# Altium footprint library TO.PcbLib: 37 footprints (part 3 of 3)
Each footprint in its own frame and in the unit in brackets; x right, y up, seen from the top. Pads: shape width x height; smd on the part's side, far side on the other; paste and mask are expansions set on the pad; w line width, h text height; cw(c..) or ccw(c..) is an arc to the next point about the centre after c.
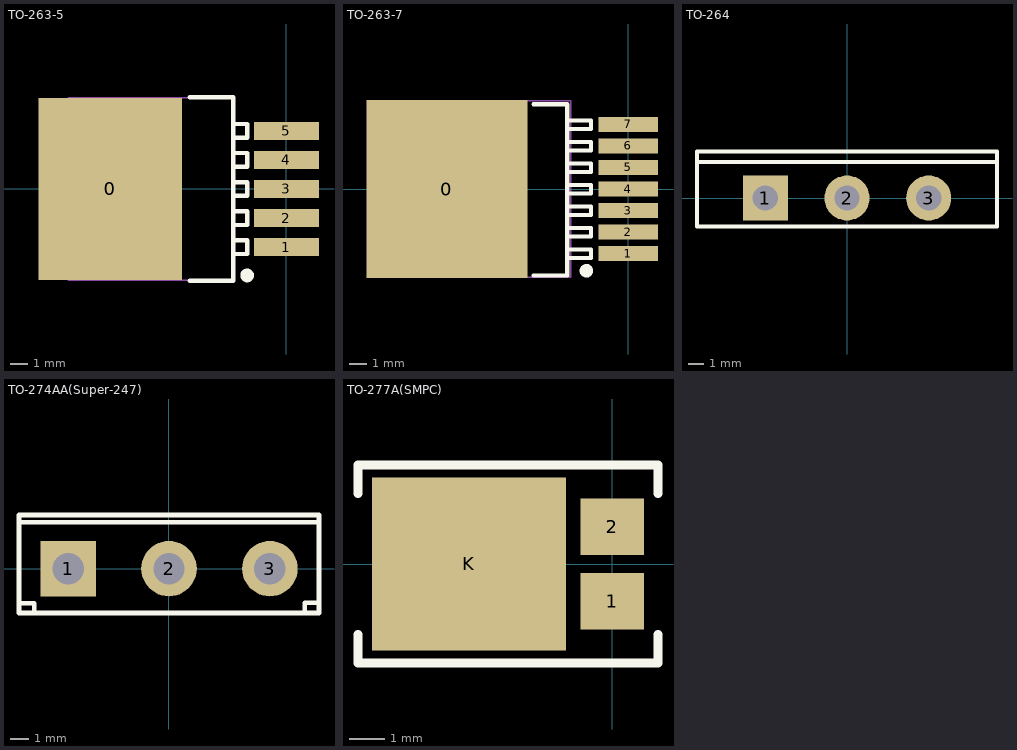
[diagram p2: the footprints below, top view; thin cyan lines are the x and y axes]

## TO-263-5 [mm]
pads (6):
  rect 8.4x10.65 smd: 0(-10.3,0)
  rect 3.8x1.05 smd: 1(0,-3.4) 2(0,-1.7) 3(0,0) 4(0,1.7) 5(0,3.4)
Top Overlay:
  circle w0.4: c-2.3,-5.05 r0.2
  lines w0.254: -5.65,-5.35 -3.1,-5.35 -3.1,5.35 -5.65,5.35 ; -3.1,-3 -2.3,-3 -2.3,-3.8 -3,-3.8 ; -3.1,-1.3 -2.3,-1.3 -2.3,-2.1 -3,-2.1 ; -3.1,0.4 -2.3,0.4 -2.3,-0.4 -3,-0.4 ; -3.1,2.1 -2.3,2.1 -2.3,1.3 -3,1.3 ; -3.1,3.8 -2.3,3.8 -2.3,3 -3,3
Mechanical 13:
  lines w0.1: -12.75,-5.325 -12.75,5.325 -3.1,5.325 -3.1,-5.325 -12.75,-5.325

## TO-263-7 [mm]
pads (8):
  rect 9.5x10.5 smd: 0(-10.7,0)
  rect 3.5x0.9 smd: 1(0,-3.81) 2(0,-2.54) 3(0,-1.27) 4(0,0) 5(0,1.27) 6(0,2.54) 7(0,3.81)
Top Overlay:
  circle w0.4: c-2.475,-4.825 r0.2
  lines w0.254: -5.6,-5.1 -3.6,-5.1 -3.6,5 -5.6,5 ; -3.6,-4.075 -2.2,-4.075 -2.2,-3.575 -3.6,-3.575 ; -3.6,-2.805 -2.2,-2.805 -2.2,-2.305 -3.6,-2.305 ; -3.6,-1.535 -2.2,-1.535 -2.2,-1.035 -3.6,-1.035 ; -3.6,-0.265 -2.2,-0.265 -2.2,0.235 -3.6,0.235 ; -3.6,1.005 -2.2,1.005 -2.2,1.505 -3.6,1.505 ; -3.6,2.275 -2.2,2.275 -2.2,2.775 -3.6,2.775 ; -3.6,3.545 -2.2,3.545 -2.2,4.045 -3.6,4.045
Mechanical 13:
  lines w0.1: -14.4,-5.2 -3.4,-5.2 -3.4,5.2 -14.4,5.2 -14.4,-5.2

## TO-264 [mm]
pads (3):
  rect 3x3 hole 1.7: 1(-5.45,0)
  round 3 hole 1.7: 2(0,0) 3(5.45,0)
Top Overlay:
  lines w0.254: -10,2.4 10,2.4 ; -10,-1.9 10,-1.9 10,3.1 -10,3.1 -10,-1.9

## TO-274AA(Super-247) [mm]
pads (3):
  rect 3x3 hole 1.7: 1(-5.45,0)
  round 3 hole 1.7: 2(0,0) 3(5.45,0)
Top Overlay:
  lines w0.254: -8.1,2.5 8.025,2.5 ; -8.05,-1.875 -7.275,-1.875 -7.275,-2.35 ; 7.325,-2.4 7.325,-1.85 8.1,-1.85 ; -8.1,-2.4 8.1,-2.4 8.1,2.9 -8.1,2.9 -8.1,-2.4

## TO-277A(SMPC) [mm]
pads (3):
  rect 1.8x1.6 smd: 1(0,-1.05) 2(0,1.05)
  rect 5.5x4.9 smd: K(-4.05,0)
Top Overlay:
  lines w0.254: -7.2,-2 -7.2,-2.8 1.3,-2.8 1.3,-2 ; -7.2,2 -7.2,2.8 1.3,2.8 1.3,2
3D body "TO-277A.STEP": height 1.2, standoff 0, extent -6.275,-2.375 0.375,2.375